# Altium footprint library Capacitor-TH.PcbLib: 18 footprints (part 2 of 2)
Each footprint in its own frame and in the unit in brackets; x right, y up, seen from the top. Pads: shape width x height; smd on the part's side, far side on the other; paste and mask are expansions set on the pad; w line width, h text height; cw(c..) or ccw(c..) is an arc to the next point about the centre after c.
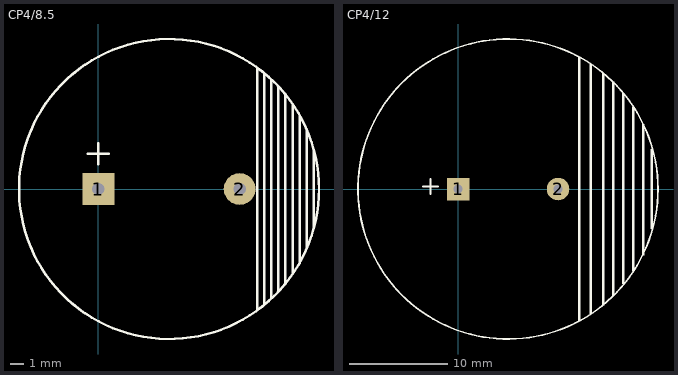
[diagram p1: the footprints below, top view; thin cyan lines are the x and y axes]

## CP4/8.5 [mil] "Tu hoa 4700uF/50V"
height 600
pads (2):
  rect 90x90 hole 35: 1(0,0)
  round 90 hole 35: 2(400,0)
Top Overlay:
  circle w7: c200,0 r425
  lines w7: -30,100 30,100 ; 0,70 0,130 ; 450,-340 450,340 ; 470,-325 470,325 ; 490,-310 490,310 ; 510,-290 510,290 ; 530,-265 530,265 ; 550,-240 550,240 ; 570,-210 570,205 ; 590,-165 590,170
  lines w8: 610,-110 610,110
3D body "User Library-ECEC2DP271BJ.STEP": height 984.25, standoff 0, extent -236.14,-438.07 630,428.07

## CP4/12 [mil] "Tu hoa 220uF/450V"
height 600
pads (2):
  rect 90x90 hole 35: 1(0,0)
  round 90 hole 35: 2(400,0)
Top Overlay:
  circle w7: c200,0 r600
  rectangle: 770,-160 780,160
  rectangle: 735,-265 745,260
  rectangle: 480,-530 490,530
  rectangle: 525,-500 535,500
  rectangle: 575,-465 585,465
  rectangle: 615,-425 625,430
  rectangle: 655,-380 665,385
  rectangle: 695,-330 705,330
  lines w7: -140,10 -80,10 ; -110,-20 -110,40